# EAGLE library part JTAG_JTAG10 (library PCB 3.0.0)
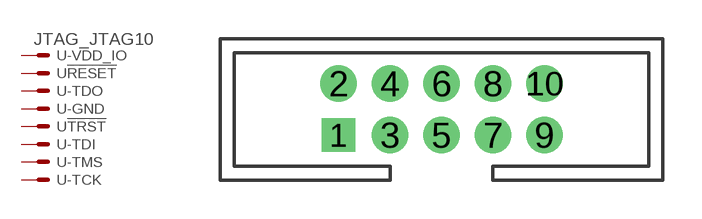
[diagram p3: symbol with the pads of JTAG_HDR-2X5-2.00; footprint JTAG_HDR-2X5-2.00]

Designator prefix -; gates !RESET=JTAG_M !TRST=JTAG_M -GND=JTAG_M -TCK=JTAG_M -TDI=JTAG_M -TDO=JTAG_M -TMS=JTAG_M -VDD_IO=JTAG_MV

## JTAG_JTAG10  [JTAG_HDR-2X5-2.00]
1  -VDD_IO:S  pas
2  -VDD_IO:S  pas
3  !TRST:S  pas
4  !RESET:S  pas
5  -TDI:S  pas
6  -TDO:S  pas
7  -TMS:S  pas
8  -GND:S  pas
9  -TCK:S  pas
10  -GND:S  pas

## Footprint JTAG_HDR-2X5-2.00 (pad centres in mm)
drill 0.8 square: 1 -4,-1
drill 0.8 pad 1.422: 2 -4,1; 3 -2,-1; 4 -2,1; 5 0,-1; 6 0,1; 7 2,-1; 8 2,1; 9 4,-1; 10 4,1